# Altium schematic symbol library SamtecHeader.SchLib: 1 symbol
Pins are listed as number, name and electrical type; pins without a type are passive.

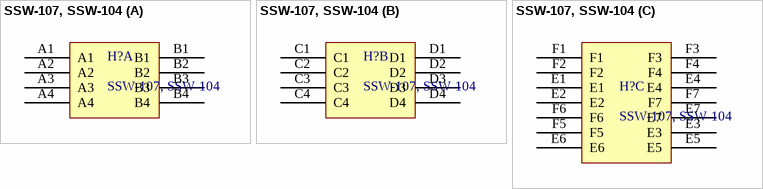
[diagram p0: symbol SSW-107, SSW-104]

## SSW-107, SSW-104
designator H?
CONN RCPT 8POS, 14POS 0.1 TIN PCB; ComponentLink1Description: Datasheet; ComponentLink1URL: http://suddendocs.samtec.com/catalog_english/ssw_th.pdf; ComponentLink2Description: Digikey; ComponentLink2URL: https://www.digikey.com.au/product-detail/en/samtec-inc/SSW-104-01-F-D/SAM10017-ND/6678754; ComponentLink3Description: Digikey; ComponentLink3URL: https://www.digikey.com.au/product-detail/en/samtec-inc/SSW-107-01-F-D/SAM9144-ND/6613824
footprint SSW-107, SSW-104
part A pins: A1, A2, A3, A4, B1, B2, B3, B4
part B pins: C1, C2, C3, C4, D1, D2, D3, D4
part C pins: E1, E2, E3, E4, E5, E6, E7, F1, F2, F3, F4, F5, F6, F7